# EAGLE library part MPU6000 (library invensense)
The triple-axis MEMS gyroscope
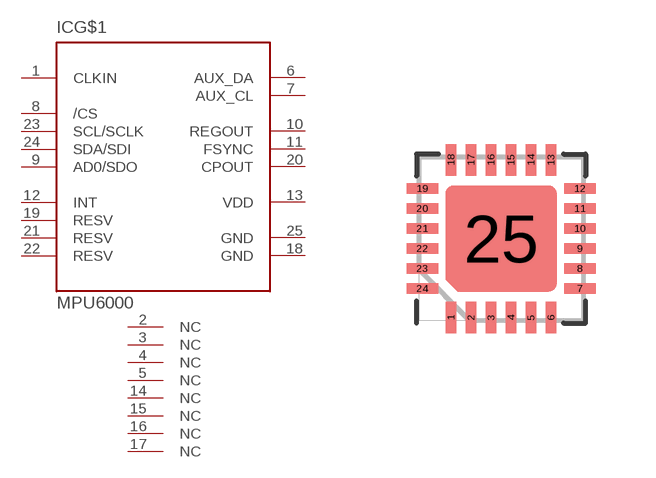
[diagram p0: symbol with the pads of QFN50P400X400X95-25T265X275N; footprint QFN50P400X400X95-25T265X275N]

Designator prefix IC; gates G$1=MPU6000 G$2=MPU_NC

## MPU6000  [QFN50P400X400X95-25T265X275N]
1  G$1:CLKIN  in
2  G$2:NC  nc
3  G$2:NC  nc
4  G$2:NC  nc
5  G$2:NC  nc
6  G$1:AUX_DA
7  G$1:AUX_CL
8  G$1:/CS  in
9  G$1:AD0/SDO
10  G$1:REGOUT  out
11  G$1:FSYNC  in
12  G$1:INT  oc
13  G$1:VDD  pwr
14  G$2:NC  nc
15  G$2:NC  nc
16  G$2:NC  nc
17  G$2:NC  nc
18  G$1:GND  pwr
19  G$1:RESV  pas
20  G$1:CPOUT  out
21  G$1:RESV  pas
22  G$1:RESV  pas
23  G$1:SCL/SCLK  in
24  G$1:SDA/SDI
25  G$1:GND  pwr

## Footprint QFN50P400X400X95-25T265X275N (pad centres in mm)
Quad Flat No-Lead (QFN with Tab), 0.50 mm pitch;square,6 pin X 6 pin,4.00 mm L X 4.00 mm W X 0.95 mm H body mc_sho@gmx.de
smd 0.26 x 0.79: 1 -1.25,-1.97; 2 -0.75,-1.97; 3 -0.25,-1.97; 4 0.25,-1.97; 5 0.75,-1.97; 6 1.25,-1.97; 13 1.25,1.97; 14 0.75,1.97; 15 0.25,1.97; 16 -0.25,1.97; 17 -0.75,1.97; 18 -1.25,1.97
smd 0.79 x 0.26: 7 1.97,-1.25; 8 1.97,-0.75; 9 1.97,-0.25; 10 1.97,0.25; 11 1.97,0.75; 12 1.97,1.25; 19 -1.97,1.25; 20 -1.97,0.75; 21 -1.97,0.25; 22 -1.97,-0.25; 23 -1.97,-0.75; 24 -1.97,-1.25
smd 2.15 x 2.05: 25 0,0